# Altium integrated library Linear Technology PMIC-Switching Reg LTC1174-LTC3901.IntLib: 2647 symbols (part 183 of 310)
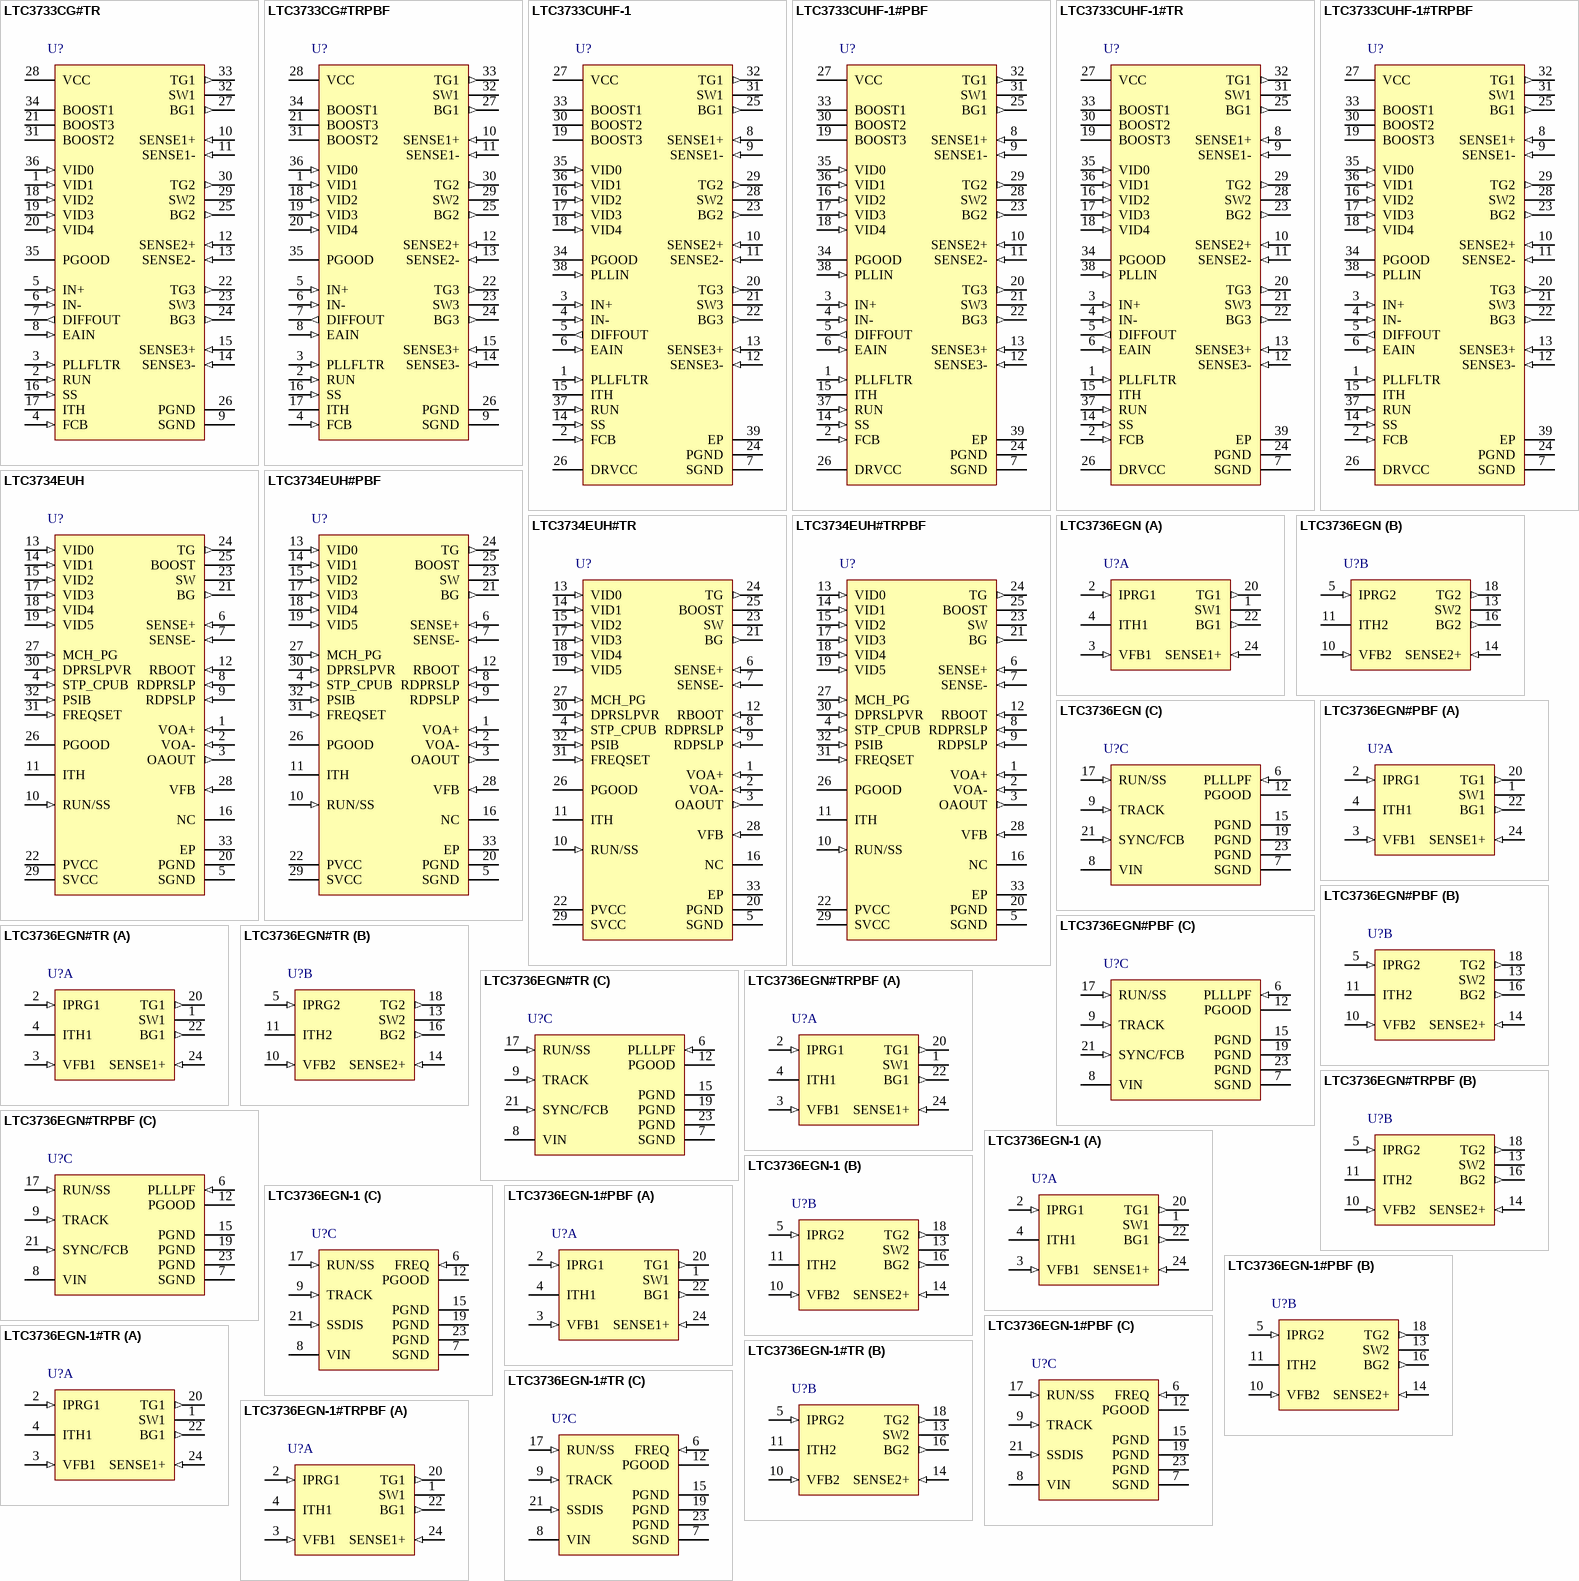
[diagram p221: symbols LTC3733CG#TR to LTC3736EGN-1#TRPBF]

## LTC3733CUHF-1#TRPBF
designator U?
3-Phase, Buck Controller for AMD CPU with External Frequency Synchronization, 38-pin QFN (UHF-38), 0 to 70 degC, Pb-Free, Tape and Reel; Manufacturer: Linear Technology; PartNumber: LTC3733CUHF-1#TRPBF; Number of Outputs: 1; PackageReference: UHF-38; PackageDescription: 38-Pin Plastic QFN, Body 7 x 5 mm, Pitch 0.5 mm; Supplier 1: Digi-Key; Supplier Part Number 1: LTC3733CUHF-1#TRPBF-ND; RoHS: TRUE; Code_JEDEC: MO-220
footprint LT-UHF-38_N (QFN, 38-Leads, Body 7.1x5.1mm, Pitch 0.5mm, Thermal Pad 3.15x5.15mm, IPC Medium Density)
footprint LT-UHF-38_L (QFN, 38-Leads, Body 7.1x5.1mm, Pitch 0.5mm, Thermal Pad 3.15x5.15mm, IPC High Density)
footprint LT-UHF-38_M (QFN, 38-Leads, Body 7.1x5.1mm, Pitch 0.5mm, Thermal Pad 3.15x5.15mm, IPC Low Density)
pins: 1 PLLFLTR (in) "The phase-locked loop¡¯s lowpass filter is tied to this pin. Alternatively, this pin can be driven with an AC or DC voltage source to vary the frequency of the internal oscillator. (Do not apply voltage to this pin prior t(See Datasheet)", 2 FCB (in) "Forced Continuous Control Input. The voltage applied to this pin sets the operating mode of the controller. The forced continuous current mode is active when the applied voltage is less than 0.6V. Burst Mode operation will (See Datasheet)", 3 IN+ (in) "Inputs to a precision, unitygain differential amplifier with internal precision resistors. This provides true remote sensing of both the positive and negative load terminals for precise output voltage control.", 4 IN- (in) "Inputs to a precision, unitygain differential amplifier with internal precision resistors. This provides true remote sensing of both the positive and negative load terminals for precise output voltage control.", 5 DIFFOUT (out) "Output of the Remote Output Voltage Sensing Differential Amplifier.", 6 EAIN (in) "This is the input to the error amplifier which compares the VID divided, feedback voltage to the internal 0.6V reference voltage.", 7 SGND (power) "Signal Ground. This pin must be routed separately under the IC to the PGND pin and then to the main ground plane. The exposed pad (QFN) must be soldered to the PCB for optimal thermal performance.", 8 SENSE1+ (in) "The Inputs to Each Differential Current Comparator. The ITH pin voltage and built-in offsets between SENSE- and SENSE+ pins, in conjunction with RSENSE, set the current trip threshold level.", 9 SENSE1- (in) "The Inputs to Each Differential Current Comparator. The ITH pin voltage and built-in offsets between SENSE- and SENSE+ pins, in conjunction with RSENSE, set the current trip threshold level.", 10 SENSE2+ (in) "The Inputs to Each Differential Current Comparator. The ITH pin voltage and built-in offsets between SENSE- and SENSE+ pins, in conjunction with RSENSE, set the current trip threshold level.", 11 SENSE2- (in) "The Inputs to Each Differential Current Comparator. The ITH pin voltage and built-in offsets between SENSE- and SENSE+ pins, in conjunction with RSENSE, set the current trip threshold level.", 12 SENSE3- (in) "The Inputs to Each Differential Current Comparator. The ITH pin voltage and built-in offsets between SENSE- and SENSE+ pins, in conjunction with RSENSE, set the current trip threshold level.", 13 SENSE3+ (in) "The Inputs to Each Differential Current Comparator. The ITH pin voltage and built-in offsets between SENSE- and SENSE+ pins, in conjunction with RSENSE, set the current trip threshold level.", 14 SS (in) "Combination of Soft-Start and Short- Circuit Detection Timer. A capacitor to ground at this pin sets the ramp time to full current output as well as the time delay prior to an output voltage short-circuit shutdown. A minimum (See Datasheet)", 15 ITH "Error Amplifier Output and Switching Regulator Compensation Point. All three current comparator¡¯s thresholds increase with this control voltage.", 16 VID2 (in) "Output Voltage Programming Input Pins. A 150k internal pull-up resistor is provided on each input pin. See Table 1 for details. Do not apply voltage to these pins prior to the application of voltage on the VCC pin.", 17 VID3 (in) "Output Voltage Programming Input Pins. A 150k internal pull-up resistor is provided on each input pin. See Table 1 for details. Do not apply voltage to these pins prior to the application of voltage on the VCC pin.", 18 VID4 (in) "Output Voltage Programming Input Pins. A 150k internal pull-up resistor is provided on each input pin. See Table 1 for details. Do not apply voltage to these pins prior to the application of voltage on the VCC pin.", 19 BOOST3 "Positive Supply Pins to the Topside Floating Drivers. Bootstrapped capacitors, charged with external Schottky diodes and a boost voltage source, are connected between the BOOST and SW pins. Voltage swing at the BOOST pins is (See Datasheet)", 20 TG3 (out) "High Current Gate Drives for Top N-channel MOSFETs. These are the outputs of floating drivers with a voltage swing equal to the boost voltage source superimposed on the switch node voltage SW.", 21 SW3 "Switch Node Connections to Inductors. Voltage swing at these pins is from a Schottky diode (external) voltage drop below ground to VIN (where VIN is the external MOSFET supply rail).", 22 BG3 (out) "High Current Gate Drives for Bottom N-Channel MOSFETs. Voltage swing at these pins is from ground to VCC.", 23 BG2 (out) "High Current Gate Drives for Bottom N-Channel MOSFETs. Voltage swing at these pins is from ground to VCC.", 24 PGND (power) "Driver Power Ground. This pin connects to the sources of the bottom N-channel external MOSFETs and the (-) terminals of CIN.", 25 BG1 (out) "High Current Gate Drives for Bottom N-Channel MOSFETs. Voltage swing at these pins is from ground to VCC.", 26 DRVCC (power) "High Power Supply to Drive the External MOSFET Gates in QFN Package. This pin needs to be closely decoupled to the IC¡¯s PGND pin.", 27 VCC (power) "Main Supply Pin. This pin supplies the controller circuit power. In the G36 package, it is also the high power supply to drive the external MOSFET gates and this pin needs to be closely decoupled to the IC¡¯s PGND pin.", 28 SW2 "Switch Node Connections to Inductors. Voltage swing at these pins is from a Schottky diode (external) voltage drop below ground to VIN (where VIN is the external MOSFET supply rail).", 29 TG2 (out) "High Current Gate Drives for Top N-channel MOSFETs. These are the outputs of floating drivers with a voltage swing equal to the boost voltage source superimposed on the switch node voltage SW.", 30 BOOST2 "Positive Supply Pins to the Topside Floating Drivers. Bootstrapped capacitors, charged with external Schottky diodes and a boost voltage source, are connected between the BOOST and SW pins. Voltage swing at the BOOST pins is (See Datasheet)", 31 SW1 "Switch Node Connections to Inductors. Voltage swing at these pins is from a Schottky diode (external) voltage drop below ground to VIN (where VIN is the external MOSFET supply rail).", 32 TG1 (out) "High Current Gate Drives for Top N-channel MOSFETs. These are the outputs of floating drivers with a voltage swing equal to the boost voltage source superimposed on the switch node voltage SW.", 33 BOOST1 "Positive Supply Pins to the Topside Floating Drivers. Bootstrapped capacitors, charged with external Schottky diodes and a boost voltage source, are connected between the BOOST and SW pins. Voltage swing at the BOOST pins is (See Datasheet)", 34 PGOOD (oc) "This open-drain output is pulled low when the output voltage is outside the PGOOD tolerance window. PGOOD is blanked during VID transitions for approximately 120us.", 35 VID0 (in) "Output Voltage Programming Input Pins. A 150k internal pull-up resistor is provided on each input pin. See Table 1 for details. Do not apply voltage to these pins prior to the application of voltage on the VCC pin.", 36 VID1 (in) "Output Voltage Programming Input Pins. A 150k internal pull-up resistor is provided on each input pin. See Table 1 for details. Do not apply voltage to these pins prior to the application of voltage on the VCC pin.", 37 RUN (in) "ON/OFF Control of the LTC3733.", 38 PLLIN (in) "Synchronization Input to Phase Detector. This pin is internally terminated to SGND with 50kW. The phase-locked loop will force the rising top gate signal of controller 1 to be synchronized with the rising edge of the PLLIN (See Datasheet)", 39 EP (power) "Ground. Must be soldered to PCB."

## LTC3734EUH
designator U?
Single-Phase, High Efficiency DC/DC Controller for Intel Mobile CPUs, 32-pin QFN (UH-32), -40 to 85 degC; Manufacturer: Linear Technology; PartNumber: LTC3734EUH; Number of Outputs: 1; PackageReference: UH-32; PackageDescription: 32-Pin Plastic QFN, Body 5 x 5 mm, Pitch 0.5 mm; Supplier 1: Digi-Key; Supplier Part Number 1: LTC3734EUH-ND; RoHS: FALSE; Code_JEDEC: MO-220
footprint LT-UH-32_N (QFN, 32-Leads, Body 5.1x5.1mm, Pitch 0.5mm, Thermal Pad 3.45X3.45mm, IPC Medium Density)
footprint LT-UH-32_L (QFN, 32-Leads, Body 5.1x5.1mm, Pitch 0.5mm, Thermal Pad 3.45X3.45mm, IPC High Density)
footprint LT-UH-32_M (QFN, 32-Leads, Body 5.1x5.1mm, Pitch 0.5mm, Thermal Pad 3.45X3.45mm, IPC Low Density)
pins: 1 VOA+ (in) "Inputs to the Internal Operational Amplifier.", 2 VOA- (in) "Inputs to the Internal Operational Amplifier.", 3 OAOUT (out) "Output of the Internal Operational Amplifier.", 4 STP_CPUB (in) "Deep Sleep State Input. When the signal to this pin is low, the voltage regulator enters deep sleep state and its output voltage is a certain percentage lower than the VID commands. This offset percentage is set by the (See Datasheet)", 5 SGND (power) "Signal Ground. All small-signal components and compensation components should connect to this ground which, in turn, connects to PGND at one point.", 6 SENSE+ (in) "The (+) Input to the Differential Current Comparator. The ITH pin voltage and built-in offsets between SENSE- and SENSE+ pins in conjunction with RSENSE set the current trip threshold.", 7 SENSE- (in) "The (-) Input to the Differential Current Comparator.", 8 RDPRSLP (in) "Deeper Sleep State Resistor Pin. Connect a resistor from this pin to VOA +. This resistor in conjunction with the RDPSLP resistor sets the output voltage of the regulator in deeper sleep state.", 9 RDPSLP (in) "Deep Sleep Resistor Pin. Connect a resistor from this pin to VOA +. This resistor sets the percentage offset of output voltage in deep sleep state", 10 RUN/SS (in) "Combination of Soft-Start, Run Control Input and Short-Circuit Detection Timer. A capacitor to ground at this pin sets the ramp time to full current output. Forcing this pin below 1V causes the IC to shut down all internal (See Datasheet)", 11 ITH "Error Amplifier Output and Switching Regulator Compensation Point. The current comparator’s threshold increases with this control voltage. The normal voltage range of this pin is from 0V to 2.4V", 12 RBOOT (in) "Boot-Up Resistor Pin. Connect a resistor from this pin to VOA +. This resistor sets the output voltage during the initial boot-up.", 13 VID0 (in) "VID Control Logic Input Pins.", 14 VID1 (in) "VID Control Logic Input Pins.", 15 VID2 (in) "VID Control Logic Input Pins.", 16 NC "Not Connected.", 17 VID3 (in) "VID Control Logic Input Pins.", 18 VID4 (in) "VID Control Logic Input Pins.", 19 VID5 (in) "VID Control Logic Input Pins.", 20 PGND (power) "Driver Power Ground. Connect to sources of bottom N-channel MOSFETs and the (-) terminals of CIN.", 21 BG (out) "High Current Gate Drive for Bottom N-Channel MOSFETs. Voltage swing at this pin is from ground to PVCC.", 22 PVCC (power) "Power Supply Pin. The on chip gate drivers are powered from this voltage source. Decouple to PGND with a minimum of 4.7uF X5R/X7R ceramic capacitor placed directly adjacent to the IC.", 23 SW "Switch Node Connection to Inductor. Voltage swing at this pin is from a Schottky diode (external) voltage drop below ground to VIN.", 24 TG (out) "High Current Gate Drive for Top N-Channel MOSFETs. This is the output of a floating driver with a voltage swing equal to PVCC superimposed on the switch node voltage SW.", 25 BOOST "Bootstrapped Supply to the Topside Floating Driver. External capacitor is connected between the BOOST and SW pins, and a Schottky diode is connected between the BOOST and PVCC pins.", 26 PGOOD (hiz) "Power Good Indicator Output. This pin is open drain when output is within +/-10% of its set point. When output is not within the +/-10% window, this pin is pulled to ground. An internal timer watches over VID, state (See Datasheet)", 27 MCH_PG (in) "MCH Power Good Input. Output voltage remains VBOOT for 15 clock cycles after the assertion of MCH_PG. This delay is only sensitive to the rising edge of the MCH_PG logic signal.", 28 VFB (in) "Input to the error amplifier that compares the feedback voltage to the internal 0.6V reference voltage.", 29 SVCC (power) "Signal Power Pin. The internal control circuits are powered from this voltage source.", 30 DPRSLPVR (in) "Deeper Sleep State Input. When the signal to this pin is high, the voltage regulator enters deeper sleep state and its output is determined by the parallel resistor value of RDPRSLP and RDPSLP. When the signal is low, the (See Datasheet)", 31 FREQSET (in) "Frequency Set Pin. Apply a DC voltage between 0V and 5V to set the operating frequency of the internal oscillator. This frequency is the switching frequency of the controller.", 32 PSIB (in) "Power Status Indicator Input. When the signal to this pin is high, the controller operates in fully synchronous switching mode for fastest transient and lowest ripple. When the signal is low, controller enters power saving (See Datasheet)", 33 EP (power) "Signal Ground. Must be soldered to the PCB."

## LTC3734EUH#PBF
designator U?
Single-Phase, High Efficiency DC/DC Controller for Intel Mobile CPUs, 32-pin QFN (UH-32), -40 to 85 degC, Pb-Free; Manufacturer: Linear Technology; PartNumber: LTC3734EUH#PBF; Number of Outputs: 1; PackageReference: UH-32; PackageDescription: 32-Pin Plastic QFN, Body 5 x 5 mm, Pitch 0.5 mm; Supplier 1: Digi-Key; Supplier Part Number 1: LTC3734EUH#PBF-ND; RoHS: TRUE; Code_JEDEC: MO-220
footprint LT-UH-32_N (QFN, 32-Leads, Body 5.1x5.1mm, Pitch 0.5mm, Thermal Pad 3.45X3.45mm, IPC Medium Density)
footprint LT-UH-32_L (QFN, 32-Leads, Body 5.1x5.1mm, Pitch 0.5mm, Thermal Pad 3.45X3.45mm, IPC High Density)
footprint LT-UH-32_M (QFN, 32-Leads, Body 5.1x5.1mm, Pitch 0.5mm, Thermal Pad 3.45X3.45mm, IPC Low Density)
pins: 1 VOA+ (in) "Inputs to the Internal Operational Amplifier.", 2 VOA- (in) "Inputs to the Internal Operational Amplifier.", 3 OAOUT (out) "Output of the Internal Operational Amplifier.", 4 STP_CPUB (in) "Deep Sleep State Input. When the signal to this pin is low, the voltage regulator enters deep sleep state and its output voltage is a certain percentage lower than the VID commands. This offset percentage is set by the (See Datasheet)", 5 SGND (power) "Signal Ground. All small-signal components and compensation components should connect to this ground which, in turn, connects to PGND at one point.", 6 SENSE+ (in) "The (+) Input to the Differential Current Comparator. The ITH pin voltage and built-in offsets between SENSE- and SENSE+ pins in conjunction with RSENSE set the current trip threshold.", 7 SENSE- (in) "The (-) Input to the Differential Current Comparator.", 8 RDPRSLP (in) "Deeper Sleep State Resistor Pin. Connect a resistor from this pin to VOA +. This resistor in conjunction with the RDPSLP resistor sets the output voltage of the regulator in deeper sleep state.", 9 RDPSLP (in) "Deep Sleep Resistor Pin. Connect a resistor from this pin to VOA +. This resistor sets the percentage offset of output voltage in deep sleep state", 10 RUN/SS (in) "Combination of Soft-Start, Run Control Input and Short-Circuit Detection Timer. A capacitor to ground at this pin sets the ramp time to full current output. Forcing this pin below 1V causes the IC to shut down all internal (See Datasheet)", 11 ITH "Error Amplifier Output and Switching Regulator Compensation Point. The current comparator’s threshold increases with this control voltage. The normal voltage range of this pin is from 0V to 2.4V", 12 RBOOT (in) "Boot-Up Resistor Pin. Connect a resistor from this pin to VOA +. This resistor sets the output voltage during the initial boot-up.", 13 VID0 (in) "VID Control Logic Input Pins.", 14 VID1 (in) "VID Control Logic Input Pins.", 15 VID2 (in) "VID Control Logic Input Pins.", 16 NC "Not Connected.", 17 VID3 (in) "VID Control Logic Input Pins.", 18 VID4 (in) "VID Control Logic Input Pins.", 19 VID5 (in) "VID Control Logic Input Pins.", 20 PGND (power) "Driver Power Ground. Connect to sources of bottom N-channel MOSFETs and the (-) terminals of CIN.", 21 BG (out) "High Current Gate Drive for Bottom N-Channel MOSFETs. Voltage swing at this pin is from ground to PVCC.", 22 PVCC (power) "Power Supply Pin. The on chip gate drivers are powered from this voltage source. Decouple to PGND with a minimum of 4.7uF X5R/X7R ceramic capacitor placed directly adjacent to the IC.", 23 SW "Switch Node Connection to Inductor. Voltage swing at this pin is from a Schottky diode (external) voltage drop below ground to VIN.", 24 TG (out) "High Current Gate Drive for Top N-Channel MOSFETs. This is the output of a floating driver with a voltage swing equal to PVCC superimposed on the switch node voltage SW.", 25 BOOST "Bootstrapped Supply to the Topside Floating Driver. External capacitor is connected between the BOOST and SW pins, and a Schottky diode is connected between the BOOST and PVCC pins.", 26 PGOOD (hiz) "Power Good Indicator Output. This pin is open drain when output is within +/-10% of its set point. When output is not within the +/-10% window, this pin is pulled to ground. An internal timer watches over VID, state (See Datasheet)", 27 MCH_PG (in) "MCH Power Good Input. Output voltage remains VBOOT for 15 clock cycles after the assertion of MCH_PG. This delay is only sensitive to the rising edge of the MCH_PG logic signal.", 28 VFB (in) "Input to the error amplifier that compares the feedback voltage to the internal 0.6V reference voltage.", 29 SVCC (power) "Signal Power Pin. The internal control circuits are powered from this voltage source.", 30 DPRSLPVR (in) "Deeper Sleep State Input. When the signal to this pin is high, the voltage regulator enters deeper sleep state and its output is determined by the parallel resistor value of RDPRSLP and RDPSLP. When the signal is low, the (See Datasheet)", 31 FREQSET (in) "Frequency Set Pin. Apply a DC voltage between 0V and 5V to set the operating frequency of the internal oscillator. This frequency is the switching frequency of the controller.", 32 PSIB (in) "Power Status Indicator Input. When the signal to this pin is high, the controller operates in fully synchronous switching mode for fastest transient and lowest ripple. When the signal is low, controller enters power saving (See Datasheet)", 33 EP (power) "Signal Ground. Must be soldered to the PCB."

## LTC3734EUH#TR
designator U?
Single-Phase, High Efficiency DC/DC Controller for Intel Mobile CPUs, 32-pin QFN (UH-32), -40 to 85 degC, Tape and Reel; Manufacturer: Linear Technology; PartNumber: LTC3734EUH#TR; Number of Outputs: 1; PackageReference: UH-32; PackageDescription: 32-Pin Plastic QFN, Body 5 x 5 mm, Pitch 0.5 mm; Supplier 1: Digi-Key; Supplier Part Number 1: LTC3734EUH#TR-ND; RoHS: FALSE; Code_JEDEC: MO-220
footprint LT-UH-32_N (QFN, 32-Leads, Body 5.1x5.1mm, Pitch 0.5mm, Thermal Pad 3.45X3.45mm, IPC Medium Density)
footprint LT-UH-32_L (QFN, 32-Leads, Body 5.1x5.1mm, Pitch 0.5mm, Thermal Pad 3.45X3.45mm, IPC High Density)
footprint LT-UH-32_M (QFN, 32-Leads, Body 5.1x5.1mm, Pitch 0.5mm, Thermal Pad 3.45X3.45mm, IPC Low Density)
pins: 1 VOA+ (in) "Inputs to the Internal Operational Amplifier.", 2 VOA- (in) "Inputs to the Internal Operational Amplifier.", 3 OAOUT (out) "Output of the Internal Operational Amplifier.", 4 STP_CPUB (in) "Deep Sleep State Input. When the signal to this pin is low, the voltage regulator enters deep sleep state and its output voltage is a certain percentage lower than the VID commands. This offset percentage is set by the (See Datasheet)", 5 SGND (power) "Signal Ground. All small-signal components and compensation components should connect to this ground which, in turn, connects to PGND at one point.", 6 SENSE+ (in) "The (+) Input to the Differential Current Comparator. The ITH pin voltage and built-in offsets between SENSE- and SENSE+ pins in conjunction with RSENSE set the current trip threshold.", 7 SENSE- (in) "The (-) Input to the Differential Current Comparator.", 8 RDPRSLP (in) "Deeper Sleep State Resistor Pin. Connect a resistor from this pin to VOA +. This resistor in conjunction with the RDPSLP resistor sets the output voltage of the regulator in deeper sleep state.", 9 RDPSLP (in) "Deep Sleep Resistor Pin. Connect a resistor from this pin to VOA +. This resistor sets the percentage offset of output voltage in deep sleep state", 10 RUN/SS (in) "Combination of Soft-Start, Run Control Input and Short-Circuit Detection Timer. A capacitor to ground at this pin sets the ramp time to full current output. Forcing this pin below 1V causes the IC to shut down all internal (See Datasheet)", 11 ITH "Error Amplifier Output and Switching Regulator Compensation Point. The current comparator’s threshold increases with this control voltage. The normal voltage range of this pin is from 0V to 2.4V", 12 RBOOT (in) "Boot-Up Resistor Pin. Connect a resistor from this pin to VOA +. This resistor sets the output voltage during the initial boot-up.", 13 VID0 (in) "VID Control Logic Input Pins.", 14 VID1 (in) "VID Control Logic Input Pins.", 15 VID2 (in) "VID Control Logic Input Pins.", 16 NC "Not Connected.", 17 VID3 (in) "VID Control Logic Input Pins.", 18 VID4 (in) "VID Control Logic Input Pins.", 19 VID5 (in) "VID Control Logic Input Pins.", 20 PGND (power) "Driver Power Ground. Connect to sources of bottom N-channel MOSFETs and the (-) terminals of CIN.", 21 BG (out) "High Current Gate Drive for Bottom N-Channel MOSFETs. Voltage swing at this pin is from ground to PVCC.", 22 PVCC (power) "Power Supply Pin. The on chip gate drivers are powered from this voltage source. Decouple to PGND with a minimum of 4.7uF X5R/X7R ceramic capacitor placed directly adjacent to the IC.", 23 SW "Switch Node Connection to Inductor. Voltage swing at this pin is from a Schottky diode (external) voltage drop below ground to VIN.", 24 TG (out) "High Current Gate Drive for Top N-Channel MOSFETs. This is the output of a floating driver with a voltage swing equal to PVCC superimposed on the switch node voltage SW.", 25 BOOST "Bootstrapped Supply to the Topside Floating Driver. External capacitor is connected between the BOOST and SW pins, and a Schottky diode is connected between the BOOST and PVCC pins.", 26 PGOOD (hiz) "Power Good Indicator Output. This pin is open drain when output is within +/-10% of its set point. When output is not within the +/-10% window, this pin is pulled to ground. An internal timer watches over VID, state (See Datasheet)", 27 MCH_PG (in) "MCH Power Good Input. Output voltage remains VBOOT for 15 clock cycles after the assertion of MCH_PG. This delay is only sensitive to the rising edge of the MCH_PG logic signal.", 28 VFB (in) "Input to the error amplifier that compares the feedback voltage to the internal 0.6V reference voltage.", 29 SVCC (power) "Signal Power Pin. The internal control circuits are powered from this voltage source.", 30 DPRSLPVR (in) "Deeper Sleep State Input. When the signal to this pin is high, the voltage regulator enters deeper sleep state and its output is determined by the parallel resistor value of RDPRSLP and RDPSLP. When the signal is low, the (See Datasheet)", 31 FREQSET (in) "Frequency Set Pin. Apply a DC voltage between 0V and 5V to set the operating frequency of the internal oscillator. This frequency is the switching frequency of the controller.", 32 PSIB (in) "Power Status Indicator Input. When the signal to this pin is high, the controller operates in fully synchronous switching mode for fastest transient and lowest ripple. When the signal is low, controller enters power saving (See Datasheet)", 33 EP (power) "Signal Ground. Must be soldered to the PCB."

## LTC3734EUH#TRPBF
designator U?
Single-Phase, High Efficiency DC/DC Controller for Intel Mobile CPUs, 32-pin QFN (UH-32), -40 to 85 degC, Pb-Free, Tape and Reel; Manufacturer: Linear Technology; PartNumber: LTC3734EUH#TRPBF; Number of Outputs: 1; PackageReference: UH-32; PackageDescription: 32-Pin Plastic QFN, Body 5 x 5 mm, Pitch 0.5 mm; Supplier 1: Digi-Key; Supplier Part Number 1: LTC3734EUH#TRPBF-ND; RoHS: TRUE; Code_JEDEC: MO-220
footprint LT-UH-32_N (QFN, 32-Leads, Body 5.1x5.1mm, Pitch 0.5mm, Thermal Pad 3.45X3.45mm, IPC Medium Density)
footprint LT-UH-32_L (QFN, 32-Leads, Body 5.1x5.1mm, Pitch 0.5mm, Thermal Pad 3.45X3.45mm, IPC High Density)
footprint LT-UH-32_M (QFN, 32-Leads, Body 5.1x5.1mm, Pitch 0.5mm, Thermal Pad 3.45X3.45mm, IPC Low Density)
pins: 1 VOA+ (in) "Inputs to the Internal Operational Amplifier.", 2 VOA- (in) "Inputs to the Internal Operational Amplifier.", 3 OAOUT (out) "Output of the Internal Operational Amplifier.", 4 STP_CPUB (in) "Deep Sleep State Input. When the signal to this pin is low, the voltage regulator enters deep sleep state and its output voltage is a certain percentage lower than the VID commands. This offset percentage is set by the (See Datasheet)", 5 SGND (power) "Signal Ground. All small-signal components and compensation components should connect to this ground which, in turn, connects to PGND at one point.", 6 SENSE+ (in) "The (+) Input to the Differential Current Comparator. The ITH pin voltage and built-in offsets between SENSE- and SENSE+ pins in conjunction with RSENSE set the current trip threshold.", 7 SENSE- (in) "The (-) Input to the Differential Current Comparator.", 8 RDPRSLP (in) "Deeper Sleep State Resistor Pin. Connect a resistor from this pin to VOA +. This resistor in conjunction with the RDPSLP resistor sets the output voltage of the regulator in deeper sleep state.", 9 RDPSLP (in) "Deep Sleep Resistor Pin. Connect a resistor from this pin to VOA +. This resistor sets the percentage offset of output voltage in deep sleep state", 10 RUN/SS (in) "Combination of Soft-Start, Run Control Input and Short-Circuit Detection Timer. A capacitor to ground at this pin sets the ramp time to full current output. Forcing this pin below 1V causes the IC to shut down all internal (See Datasheet)", 11 ITH "Error Amplifier Output and Switching Regulator Compensation Point. The current comparator’s threshold increases with this control voltage. The normal voltage range of this pin is from 0V to 2.4V", 12 RBOOT (in) "Boot-Up Resistor Pin. Connect a resistor from this pin to VOA +. This resistor sets the output voltage during the initial boot-up.", 13 VID0 (in) "VID Control Logic Input Pins.", 14 VID1 (in) "VID Control Logic Input Pins.", 15 VID2 (in) "VID Control Logic Input Pins.", 16 NC "Not Connected.", 17 VID3 (in) "VID Control Logic Input Pins.", 18 VID4 (in) "VID Control Logic Input Pins.", 19 VID5 (in) "VID Control Logic Input Pins.", 20 PGND (power) "Driver Power Ground. Connect to sources of bottom N-channel MOSFETs and the (-) terminals of CIN.", 21 BG (out) "High Current Gate Drive for Bottom N-Channel MOSFETs. Voltage swing at this pin is from ground to PVCC.", 22 PVCC (power) "Power Supply Pin. The on chip gate drivers are powered from this voltage source. Decouple to PGND with a minimum of 4.7uF X5R/X7R ceramic capacitor placed directly adjacent to the IC.", 23 SW "Switch Node Connection to Inductor. Voltage swing at this pin is from a Schottky diode (external) voltage drop below ground to VIN.", 24 TG (out) "High Current Gate Drive for Top N-Channel MOSFETs. This is the output of a floating driver with a voltage swing equal to PVCC superimposed on the switch node voltage SW.", 25 BOOST "Bootstrapped Supply to the Topside Floating Driver. External capacitor is connected between the BOOST and SW pins, and a Schottky diode is connected between the BOOST and PVCC pins.", 26 PGOOD (hiz) "Power Good Indicator Output. This pin is open drain when output is within +/-10% of its set point. When output is not within the +/-10% window, this pin is pulled to ground. An internal timer watches over VID, state (See Datasheet)", 27 MCH_PG (in) "MCH Power Good Input. Output voltage remains VBOOT for 15 clock cycles after the assertion of MCH_PG. This delay is only sensitive to the rising edge of the MCH_PG logic signal.", 28 VFB (in) "Input to the error amplifier that compares the feedback voltage to the internal 0.6V reference voltage.", 29 SVCC (power) "Signal Power Pin. The internal control circuits are powered from this voltage source.", 30 DPRSLPVR (in) "Deeper Sleep State Input. When the signal to this pin is high, the voltage regulator enters deeper sleep state and its output is determined by the parallel resistor value of RDPRSLP and RDPSLP. When the signal is low, the (See Datasheet)", 31 FREQSET (in) "Frequency Set Pin. Apply a DC voltage between 0V and 5V to set the operating frequency of the internal oscillator. This frequency is the switching frequency of the controller.", 32 PSIB (in) "Power Status Indicator Input. When the signal to this pin is high, the controller operates in fully synchronous switching mode for fastest transient and lowest ripple. When the signal is low, controller enters power saving (See Datasheet)", 33 EP (power) "Signal Ground. Must be soldered to the PCB."

## LTC3736EGN
designator U?
Dual 2-Phase, No Rsense Synchronous Controller with Output Tracking, 24-pin SOP (GN24), -40 to 85 degC; Manufacturer: Linear Technology; PartNumber: LTC3736EGN; Number of Outputs: 2; PackageReference: GN24; PackageDescription: 24-Pin Plastic SSOP , Body 8.5 x 3.9 mm, Pitch 0.635 mm; Supplier 1: Digi-Key; Supplier Part Number 1: LTC3736EGN-ND; RoHS: FALSE
footprint LT-GN-24_N (SOP, 24-Leads, Body 8.7x4mm, Pitch 0.635mm, IPC Medium Density)
footprint LT-GN-24_L (SOP, 24-Leads, Body 8.7x4mm, Pitch 0.635mm, IPC High Density)
footprint LT-GN-24_M (SOP, 24-Leads, Body 8.7x4mm, Pitch 0.635mm, IPC Low Density)
part A pins: 1 SW1 "Switch Node Connection to Inductor. Also the negative input to differential peak current comparator and an input to the reverse current comparator. Normally connected to the drain of the external P-channel MOSFETs, the drain (See Datasheet)", 2 IPRG1 (in) "Three-State Pins to Select Maximum Peak Sense Voltage Threshold.", 3 VFB1 (in) "Feedback Pins. Receives the remotely sensed feedback voltage for its controller from an external resistor divider across the output", 4 ITH1 "Current Threshold and Error Amplifier Compensation Point. Nominal operating range on these pins is from 0.7V to 2V. The voltage on these pins determines the threshold of the main current comparator.", 20 TG1 (out) "Top (PMOS) Gate Drive Output. These pins drive the gates of the external P-channel MOSFETs. These pins have an output swing from PGND to SENSE+.", 22 BG1 (out) "Bottom (NMOS) Gate Drive Output. These pins drive the gates of the external N-channel MOSFETs. These pins have an output swing from PGND to SENSE+.", 24 SENSE1+ (in) "Positive Input to Differential Current Comparator. Also powers the gate drivers. Normally connected to the source of the external P-channel MOSFET."
part B pins: 5 IPRG2 (in) "Three-State Pins to Select Maximum Peak Sense Voltage Threshold.", 10 VFB2 (in) "Feedback Pins. Receives the remotely sensed feedback voltage for its controller from an external resistor divider across the output", 11 ITH2 "Current Threshold and Error Amplifier Compensation Point. Nominal operating range on these pins is from 0.7V to 2V. The voltage on these pins determines the threshold of the main current comparator.", 13 SW2 "Switch Node Connection to Inductor. Also the negative input to differential peak current comparator and an input to the reverse current comparator. Normally connected to the drain of the external P-channel MOSFETs, the drain (See Datasheet)", 14 SENSE2+ (in) "Positive Input to Differential Current Comparator. Also powers the gate drivers. Normally connected to the source of the external P-channel MOSFET.", 16 BG2 (out) "Bottom (NMOS) Gate Drive Output. These pins drive the gates of the external N-channel MOSFETs. These pins have an output swing from PGND to SENSE+.", 18 TG2 (out) "Top (PMOS) Gate Drive Output. These pins drive the gates of the external P-channel MOSFETs. These pins have an output swing from PGND to SENSE+."
part C pins: 6 PLLLPF (in) "Frequency Set/PLL Lowpass Filter. When synchronizing to an external clock, this pin serves as the lowpass filter point for the phase-locked loop. Normally a series RC is connected between this pin and ground.  When not (See Datasheet)", 7 SGND (power) "Small-Signal Ground. This pin serves as the ground connection for most internal circuits.", 8 VIN (power) "Chip Signal Power Supply. This pin powers the entire chip except for the gate drivers. Externally filtering this pin with a lowpass RC network (e.g., R = 10ohm, C = 1uF) is suggested to minimize noise pickup, especially in (See Datasheet)", 9 TRACK (in) "Tracking Input for Second Controller. Allows the start-up of VOUT2 to track that of VOUT1 according to a ratio established by a resistor divider on VOUT1 connected to the TRACK pin. For one-to-one tracking of VOUT1 and VOUT2 (See Datasheet)", 12 PGOOD (oc) "Power Good Output Voltage Monitor Open-Drain Logic Output. This pin is pulled to ground when the voltage on either feedback pin (VFB1, VFB2) is not within +/-13.3% of its nominal set point.", 15 PGND (power) "Power Ground. These pins serve as the ground connection for the gate drivers and the negative input to the reverse current comparators.", 17 RUN/SS (in) "Run Control Input and Optional External Soft-Start Input. Forcing this pin below 0.65V shuts down the chip (both channels). Driving this pin to VIN or releasing this pin enables the chip, using the chip’s interna(See Datasheet)", 19 PGND (power) "Power Ground. These pins serve as the ground connection for the gate drivers and the negative input to the reverse current comparators.", 21 SYNC/FCB (in) "This pin performs three functions: 1) auxiliary winding feedback input, 2) external clock synchronization input for phase-locked loop, and 3) pulse-skipping operation or forced continuous mode select. For auxiliary winding (See Datasheet)", 23 PGND (power) "Power Ground. These pins serve as the ground connection for the gate drivers and the negative input to the reverse current comparators."

## LTC3736EGN#PBF
designator U?
Dual 2-Phase, No Rsense Synchronous Controller with Output Tracking, 24-pin SOP (GN24), -40 to 85 degC, Pb-Free; Manufacturer: Linear Technology; PartNumber: LTC3736EGN#PBF; Number of Outputs: 2; PackageReference: GN24; PackageDescription: 24-Pin Plastic SSOP , Body 8.5 x 3.9 mm, Pitch 0.635 mm; Supplier 1: Digi-Key; Supplier Part Number 1: LTC3736EGN#PBF-ND; RoHS: TRUE
footprint LT-GN-24_N (SOP, 24-Leads, Body 8.7x4mm, Pitch 0.635mm, IPC Medium Density)
footprint LT-GN-24_L (SOP, 24-Leads, Body 8.7x4mm, Pitch 0.635mm, IPC High Density)
footprint LT-GN-24_M (SOP, 24-Leads, Body 8.7x4mm, Pitch 0.635mm, IPC Low Density)
part A pins: 1 SW1 "Switch Node Connection to Inductor. Also the negative input to differential peak current comparator and an input to the reverse current comparator. Normally connected to the drain of the external P-channel MOSFETs, the drain (See Datasheet)", 2 IPRG1 (in) "Three-State Pins to Select Maximum Peak Sense Voltage Threshold.", 3 VFB1 (in) "Feedback Pins. Receives the remotely sensed feedback voltage for its controller from an external resistor divider across the output", 4 ITH1 "Current Threshold and Error Amplifier Compensation Point. Nominal operating range on these pins is from 0.7V to 2V. The voltage on these pins determines the threshold of the main current comparator.", 20 TG1 (out) "Top (PMOS) Gate Drive Output. These pins drive the gates of the external P-channel MOSFETs. These pins have an output swing from PGND to SENSE+.", 22 BG1 (out) "Bottom (NMOS) Gate Drive Output. These pins drive the gates of the external N-channel MOSFETs. These pins have an output swing from PGND to SENSE+.", 24 SENSE1+ (in) "Positive Input to Differential Current Comparator. Also powers the gate drivers. Normally connected to the source of the external P-channel MOSFET."
part B pins: 5 IPRG2 (in) "Three-State Pins to Select Maximum Peak Sense Voltage Threshold.", 10 VFB2 (in) "Feedback Pins. Receives the remotely sensed feedback voltage for its controller from an external resistor divider across the output", 11 ITH2 "Current Threshold and Error Amplifier Compensation Point. Nominal operating range on these pins is from 0.7V to 2V. The voltage on these pins determines the threshold of the main current comparator.", 13 SW2 "Switch Node Connection to Inductor. Also the negative input to differential peak current comparator and an input to the reverse current comparator. Normally connected to the drain of the external P-channel MOSFETs, the drain (See Datasheet)", 14 SENSE2+ (in) "Positive Input to Differential Current Comparator. Also powers the gate drivers. Normally connected to the source of the external P-channel MOSFET.", 16 BG2 (out) "Bottom (NMOS) Gate Drive Output. These pins drive the gates of the external N-channel MOSFETs. These pins have an output swing from PGND to SENSE+.", 18 TG2 (out) "Top (PMOS) Gate Drive Output. These pins drive the gates of the external P-channel MOSFETs. These pins have an output swing from PGND to SENSE+."
part C pins: 6 PLLLPF (in) "Frequency Set/PLL Lowpass Filter. When synchronizing to an external clock, this pin serves as the lowpass filter point for the phase-locked loop. Normally a series RC is connected between this pin and ground.  When not (See Datasheet)", 7 SGND (power) "Small-Signal Ground. This pin serves as the ground connection for most internal circuits.", 8 VIN (power) "Chip Signal Power Supply. This pin powers the entire chip except for the gate drivers. Externally filtering this pin with a lowpass RC network (e.g., R = 10ohm, C = 1uF) is suggested to minimize noise pickup, especially in (See Datasheet)", 9 TRACK (in) "Tracking Input for Second Controller. Allows the start-up of VOUT2 to track that of VOUT1 according to a ratio established by a resistor divider on VOUT1 connected to the TRACK pin. For one-to-one tracking of VOUT1 and VOUT2 (See Datasheet)", 12 PGOOD (oc) "Power Good Output Voltage Monitor Open-Drain Logic Output. This pin is pulled to ground when the voltage on either feedback pin (VFB1, VFB2) is not within +/-13.3% of its nominal set point.", 15 PGND (power) "Power Ground. These pins serve as the ground connection for the gate drivers and the negative input to the reverse current comparators.", 17 RUN/SS (in) "Run Control Input and Optional External Soft-Start Input. Forcing this pin below 0.65V shuts down the chip (both channels). Driving this pin to VIN or releasing this pin enables the chip, using the chip’s interna(See Datasheet)", 19 PGND (power) "Power Ground. These pins serve as the ground connection for the gate drivers and the negative input to the reverse current comparators.", 21 SYNC/FCB (in) "This pin performs three functions: 1) auxiliary winding feedback input, 2) external clock synchronization input for phase-locked loop, and 3) pulse-skipping operation or forced continuous mode select. For auxiliary winding (See Datasheet)", 23 PGND (power) "Power Ground. These pins serve as the ground connection for the gate drivers and the negative input to the reverse current comparators."

## LTC3736EGN#TR
designator U?
Dual 2-Phase, No Rsense Synchronous Controller with Output Tracking, 24-pin SOP (GN24), -40 to 85 degC, Tape and Reel; Manufacturer: Linear Technology; PartNumber: LTC3736EGN#TR; Number of Outputs: 2; PackageReference: GN24; PackageDescription: 24-Pin Plastic SSOP , Body 8.5 x 3.9 mm, Pitch 0.635 mm; Supplier 1: Digi-Key; Supplier Part Number 1: LTC3736EGN#TR-ND; RoHS: FALSE
footprint LT-GN-24_N (SOP, 24-Leads, Body 8.7x4mm, Pitch 0.635mm, IPC Medium Density)
footprint LT-GN-24_L (SOP, 24-Leads, Body 8.7x4mm, Pitch 0.635mm, IPC High Density)
footprint LT-GN-24_M (SOP, 24-Leads, Body 8.7x4mm, Pitch 0.635mm, IPC Low Density)
part A pins: 1 SW1 "Switch Node Connection to Inductor. Also the negative input to differential peak current comparator and an input to the reverse current comparator. Normally connected to the drain of the external P-channel MOSFETs, the drain (See Datasheet)", 2 IPRG1 (in) "Three-State Pins to Select Maximum Peak Sense Voltage Threshold.", 3 VFB1 (in) "Feedback Pins. Receives the remotely sensed feedback voltage for its controller from an external resistor divider across the output", 4 ITH1 "Current Threshold and Error Amplifier Compensation Point. Nominal operating range on these pins is from 0.7V to 2V. The voltage on these pins determines the threshold of the main current comparator.", 20 TG1 (out) "Top (PMOS) Gate Drive Output. These pins drive the gates of the external P-channel MOSFETs. These pins have an output swing from PGND to SENSE+.", 22 BG1 (out) "Bottom (NMOS) Gate Drive Output. These pins drive the gates of the external N-channel MOSFETs. These pins have an output swing from PGND to SENSE+.", 24 SENSE1+ (in) "Positive Input to Differential Current Comparator. Also powers the gate drivers. Normally connected to the source of the external P-channel MOSFET."
part B pins: 5 IPRG2 (in) "Three-State Pins to Select Maximum Peak Sense Voltage Threshold.", 10 VFB2 (in) "Feedback Pins. Receives the remotely sensed feedback voltage for its controller from an external resistor divider across the output", 11 ITH2 "Current Threshold and Error Amplifier Compensation Point. Nominal operating range on these pins is from 0.7V to 2V. The voltage on these pins determines the threshold of the main current comparator.", 13 SW2 "Switch Node Connection to Inductor. Also the negative input to differential peak current comparator and an input to the reverse current comparator. Normally connected to the drain of the external P-channel MOSFETs, the drain (See Datasheet)", 14 SENSE2+ (in) "Positive Input to Differential Current Comparator. Also powers the gate drivers. Normally connected to the source of the external P-channel MOSFET.", 16 BG2 (out) "Bottom (NMOS) Gate Drive Output. These pins drive the gates of the external N-channel MOSFETs. These pins have an output swing from PGND to SENSE+.", 18 TG2 (out) "Top (PMOS) Gate Drive Output. These pins drive the gates of the external P-channel MOSFETs. These pins have an output swing from PGND to SENSE+."
part C pins: 6 PLLLPF (in) "Frequency Set/PLL Lowpass Filter. When synchronizing to an external clock, this pin serves as the lowpass filter point for the phase-locked loop. Normally a series RC is connected between this pin and ground.  When not (See Datasheet)", 7 SGND (power) "Small-Signal Ground. This pin serves as the ground connection for most internal circuits.", 8 VIN (power) "Chip Signal Power Supply. This pin powers the entire chip except for the gate drivers. Externally filtering this pin with a lowpass RC network (e.g., R = 10ohm, C = 1uF) is suggested to minimize noise pickup, especially in (See Datasheet)", 9 TRACK (in) "Tracking Input for Second Controller. Allows the start-up of VOUT2 to track that of VOUT1 according to a ratio established by a resistor divider on VOUT1 connected to the TRACK pin. For one-to-one tracking of VOUT1 and VOUT2 (See Datasheet)", 12 PGOOD (oc) "Power Good Output Voltage Monitor Open-Drain Logic Output. This pin is pulled to ground when the voltage on either feedback pin (VFB1, VFB2) is not within +/-13.3% of its nominal set point.", 15 PGND (power) "Power Ground. These pins serve as the ground connection for the gate drivers and the negative input to the reverse current comparators.", 17 RUN/SS (in) "Run Control Input and Optional External Soft-Start Input. Forcing this pin below 0.65V shuts down the chip (both channels). Driving this pin to VIN or releasing this pin enables the chip, using the chip’s interna(See Datasheet)", 19 PGND (power) "Power Ground. These pins serve as the ground connection for the gate drivers and the negative input to the reverse current comparators.", 21 SYNC/FCB (in) "This pin performs three functions: 1) auxiliary winding feedback input, 2) external clock synchronization input for phase-locked loop, and 3) pulse-skipping operation or forced continuous mode select. For auxiliary winding (See Datasheet)", 23 PGND (power) "Power Ground. These pins serve as the ground connection for the gate drivers and the negative input to the reverse current comparators."